# EAGLE library part TCMT4100 (library doz)
quad optocoupler with cool pinout
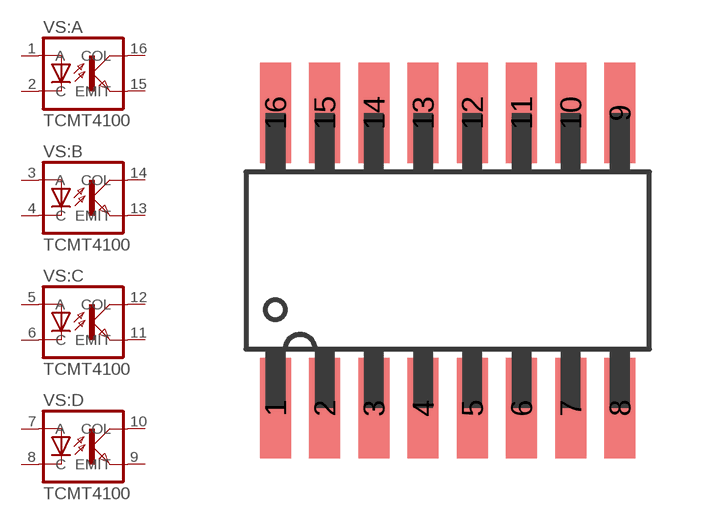
[diagram p4: symbol with the pads of TCMT4100; footprint TCMT4100]

Designator prefix VS; gates :A=OPTO-OK :B=OPTO-OK :C=OPTO-OK :D=OPTO-OK

## TCMT4100  [TCMT4100]
1  :A:A  pas
2  :A:C  pas
3  :B:A  pas
4  :B:C  pas
5  :C:A  pas
6  :C:C  pas
7  :D:A  pas
8  :D:C  pas
9  :D:EMIT  pas
10  :D:COL  pas
11  :C:EMIT  pas
12  :C:COL  pas
13  :B:EMIT  pas
14  :B:COL  pas
15  :A:EMIT  pas
16  :A:COL  pas

## Footprint TCMT4100 (pad centres in mm)
smd 0.8 x 2.6: 1 -3.81,-3.81; 2 -2.54,-3.81; 3 -1.27,-3.81; 4 0,-3.81; 5 1.27,-3.81; 6 2.54,-3.81; 7 3.81,-3.81; 8 5.08,-3.81; 9 5.08,3.81; 10 3.81,3.81; 11 2.54,3.81; 12 1.27,3.81; 13 0,3.81; 14 -1.27,3.81; 15 -2.54,3.81; 16 -3.81,3.81